# Altium schematic symbol library MongoosMini.SchLib: 17 symbols
Pins are listed as number, name and electrical type; pins without a type are passive.

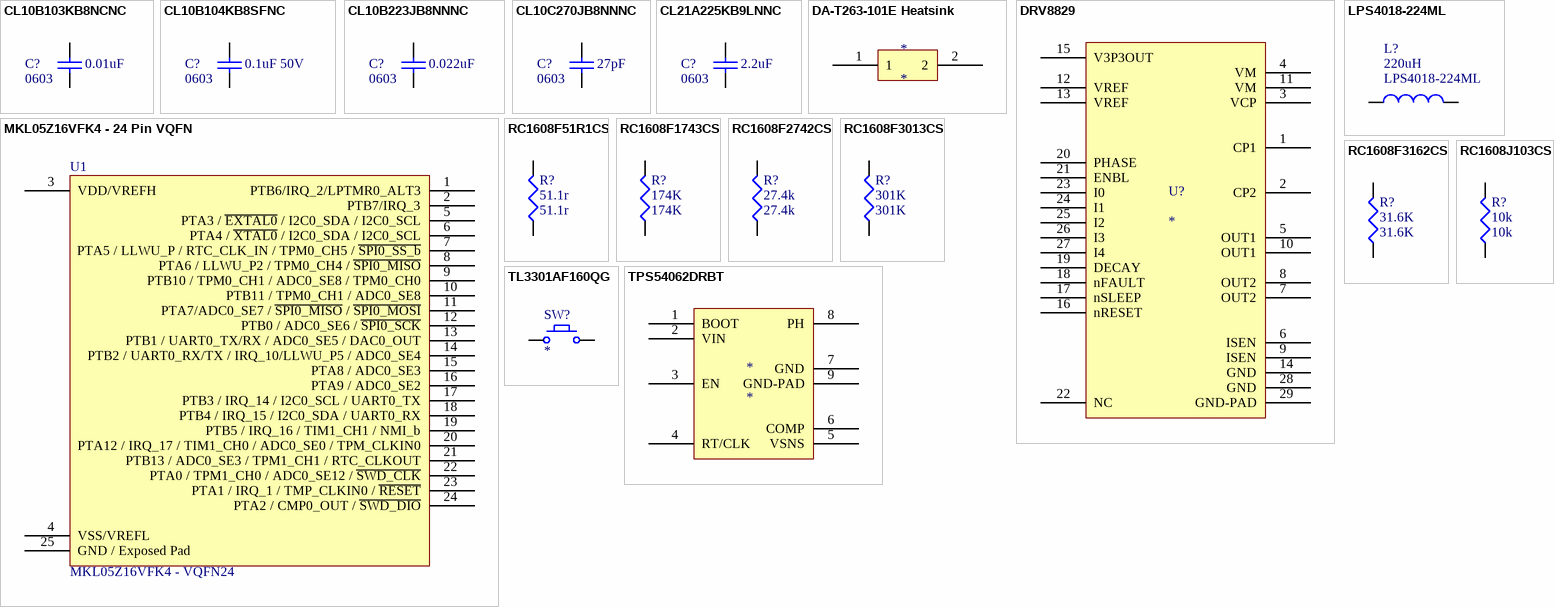
[diagram p0: symbols CL10B103KB8NCNC to TPS54062DRBT]

## CL10B103KB8NCNC
designator C?, comment 0603  value 0.01uF
CAP CER 10000PF 50V 10% X7R 0603; MFR Part #: CL10B103KB8NCNC; MFR: Samsung; Voltage: 50VDC; Published: 10 - Dec - 2014; LatestRevisionDate: April 2015; Component Type: Chip Capacitor; Part Description: CAP CER 10000PF 50V 10% X7R 0603; Mounting Type: SMT 0603; Datasheet: http://www.samsungsem.com/kr/front/downloadcms.do?path=/kr/support/product-search/mlcc/__icsFiles/afieldfile/2014/11/05&fileName=S_CL10B103KB8NCNC.pdf; Height: 0.9mm; Tolerance: 10%; Digikey #: 1276-1921-1-ND; PackageReference: 0603
simulation model CAP (Semiconductor Capacitor)
signal-integrity model Cap Semi
footprint C0603
pins: 1, 2

## CL10B104KB8SFNC
designator C?, comment 0603  value 0.1uF 50V
CAP CER 0.1UF 50V 10% X7R 0603; MFR Part #: CL10B104KB8SFNC; MFR: Samsung; Voltage: 50VDC; Published: 10 - Dec - 2014; LatestRevisionDate: April 2015; Component Type: Chip Capacitor; Part Description: CAP CER 0.1UF 50V 10% X7R 0603; Mounting Type: SMT 0603; Datasheet: http://www.samsungsem.com/kr/front/downloadcms.do?path=/kr/support/product-search/mlcc/__icsFiles/afieldfile/2014/11/05&fileName=S_CL10B104KB8SFNC.pdf; Height: 0.9mm; Tolerance: 10%; Digikey #: 1276-1936-1-ND; PackageReference: 0603
simulation model CAP (Semiconductor Capacitor)
signal-integrity model Cap Semi
footprint C0603
pins: 1, 2

## CL10B223JB8NNNC
designator C?, comment 0603  value 0.022uF
CAP CER 0.022UF 50V 5% X7R 0603; MFR Part #: CL10B223JB8NNNC; MFR: Samsung; Tolerance: 10%; Voltage: 50VDC; Published: 10 - Dec - 2014; LatestRevisionDate: April 2015; Component Type: Chip Capacitor; Part Description: CAP CER 0.022UF 50V 5% X7R 0603; Mounting Type: SMT 0603; Datasheet: http://www.samsungsem.com/kr/front/downloadcms.do?path=/kr/support/product-search/mlcc/__icsFiles/afieldfile/2014/11/05&fileName=S_CL10B223JB8NNNC.pdf; Height: 0.9mm; Digikey #: 1276-1996-1-ND; PackageReference: 0603
simulation model CAP (Semiconductor Capacitor)
signal-integrity model Cap Semi
footprint C0603
pins: 1, 2

## CL10C270JB8NNNC
designator C?, comment 0603  value 27pF
CAP CER 27PF 50V 5% NP0 0603; MFR Part #: CL10C270JB8NNNC; MFR: Samsung; Voltage: 50VDC; Published: 10 - Dec - 2014; LatestRevisionDate: April 2015; Component Type: Chip Capacitor; Part Description: CAP CER 27PF 50V 5% NP0 0603; Mounting Type: SMT 0603; Datasheet: http://www.samsungsem.com/kr/front/downloadcms.do?path=/kr/support/product-search/mlcc/__icsFiles/afieldfile/2014/11/05&fileName=S_CL10C270JB8NNNC.pdf; Height: 0.9mm; Tolerance: 5%; Digikey #: 1276-1921-1-ND; PackageReference: 0603
simulation model CAP (Semiconductor Capacitor)
signal-integrity model Cap Semi
footprint C0603
pins: 1, 2

## CL21A225KB9LNNC
designator C?, comment 0603  value 2.2uF
CAP CER 2.2UF 50V 10% X5R 0805; MFR Part #: CL21A225KB9LNNC; MFR: Samsung; Voltage: 50VDC; Published: 10 - Dec - 2014; LatestRevisionDate: April 2015; Component Type: Chip Capacitor; Part Description: CAP CER 2.2UF 50V 10% X5R 0805; Mounting Type: SMT 0805; Datasheet: http://www.samsungsem.com/kr/front/downloadcms.do?path=/kr/support/product-search/mlcc/__icsFiles/afieldfile/2014/11/05&fileName=S_CL21A225KB9LNNC.pdf; Height: 1mm; Tolerance: 10%; Digikey #: 1276-2409-1-ND; PackageReference: 0805
simulation model CAP (Semiconductor Capacitor)
signal-integrity model Cap Semi
footprint C0805
pins: 1, 2

## DA-T263-101E Heatsink
designator *
footprint DA-T263-101E
pins: 1, 2

## DRV8829
designator U?
IC MOTOR DRIVER PAR 28HTSSOP; MFR: Texas Instruments; MFR #: DRV8829PWPR; RHos: Yes; Datasheet: https://www.ti.com/lit/ds/symlink/drv8829.pdf; Digikey #: 296-28829-1-ND
footprint TSSOP28-DRV8829 (TSOP, 28-Leads, Body 9.70x4.40mm, Pitch 0.65mm, Thermal Pad 5.22x3.10mm, IPC Medium Density)
pins: 1 CP1, 2 CP2, 3 VCP, 4 VM, 5 OUT1, 6 ISEN, 7 OUT2, 8 OUT2, 9 ISEN, 10 OUT1, 11 VM, 12 VREF, 13 VREF, 14 GND, 15 V3P3OUT, 16 nRESET, 17 nSLEEP, 18 nFAULT, 19 DECAY, 20 PHASE, 21 ENBL, 22 NC, 23 I0, 24 I1, 25 I2, 26 I3, 27 I4, 28 GND, 29 GND-PAD

## LPS4018-224ML
designator L?  value 220uH
Inductor; MFR: Coilcraft; Published: 8-Jun-2000; LatestRevisionDate: April 2015; PackageReference: Coilcraft Custom; Publisher: Altium Limited; PackageDescription: Custom Wound SMD Inductor; MFR#: LPS4018-224ML; Height: 1.7mm
simulation model INDUCTOR (Inductor)
signal-integrity model Inductor
footprint LPS4018-224ML (Precision Wire Wound Inductor, 2-Leads, Body 4.40x3.90mm, IPC Medium Density)
pins: 1, 2

## MKL05Z16VFK4 - 24 Pin VQFN
designator U1, comment MKL05Z16VFK4 - VQFN24
ARM Cortex M0+
footprint 98ASA00474D (QFN, 24-Leads, Body 3.98x3.98mm, Pitch 0.50mm, Thermal Pad 2.80x2.80mm, IPC Medium Density)
pins: 1 PTB6/IRQ_2/LPTMR0_ALT3, 2 PTB7/IRQ_3, 3 VDD/VREFH, 4 VSS/VREFL, 5 PTA3 / ~{EXTAL0} / I2C0_SDA / I2C0_SCL, 6 PTA4 / ~{XTAL0} / I2C0_SDA / I2C0_SCL, 7 PTA5 / LLWU_P / RTC_CLK_IN / TPM0_CH5 / ~{SPI0_SS_b}, 8 PTA6 / LLWU_P2 / TPM0_CH4 / ~{SPI0_MISO}, 9 PTB10 / TPM0_CH1 / ADC0_SE8 / TPM0_CH0, 10 PTB11 / TPM0_CH1 / ADC0_SE8, 11 PTA7/ADC0_SE7 / ~{SPI0_MISO} / ~{SPI0_MOSI}, 12 PTB0 / ADC0_SE6 / ~{SPI0_SCK}, 13 PTB1 / UART0_TX/RX / ADC0_SE5 / DAC0_OUT, 14 PTB2 / UART0_RX/TX / IRQ_10/LLWU_P5 / ADC0_SE4, 15 PTA8 / ADC0_SE3, 16 PTA9 / ADC0_SE2, 17 PTB3 / IRQ_14 / I2C0_SCL / UART0_TX, 18 PTB4 / IRQ_15 / I2C0_SDA / UART0_RX, 19 PTB5 / IRQ_16 / TIM1_CH1 / NMI_b, 20 PTA12 / IRQ_17 / TIM1_CH0 / ADC0_SE0 / TPM_CLKIN0, 21 PTB13 / ADC0_SE3 / TPM1_CH1 / RTC_CLKOUT, 22 PTA0 / TPM1_CH0 / ADC0_SE12 / ~{SWD_CLK}, 23 PTA1 / IRQ_1 / TMP_CLKIN0 / ~{RESET}, 24 PTA2 / CMP0_OUT / ~{SWD_DIO}, 25 GND / Exposed Pad

## RC1608F51R1CS
designator R?, comment 51.1r
RES SMD 51.1 OHM 1% 1/10W 0603; MFR: Samsung; MFR #: RC1608F51R1CS; PackageReference: 0603; Digikey #: 1276-4543-1-ND; PDF: http://www.samsungsem.com/global/support/library/product-catalog/__icsFiles/afieldfile/2015/01/12/CHIP_RESISTOR_150112_1.pdf; Value: 51.1r
simulation model RESISTOR (Resistor)
signal-integrity model Res
footprint R0603
pins: 1, 2

## RC1608F1743CS
designator R?, comment 174K
RES SMD 174K OHM 1% 1/10W 0603; MFR: Samsung; MFR #: RC1608F1743CS; PackageReference: 0603; Digikey #: 1276-4857-1-ND; PDF: http://www.samsungsem.com/global/support/library/product-catalog/__icsFiles/afieldfile/2015/01/12/CHIP_RESISTOR_150112_1.pdf; Value: 174K
simulation model RESISTOR (Resistor)
signal-integrity model Res
footprint R0603
pins: 1, 2

## RC1608F2742CS
designator R?, comment 27.4k
RES SMD 27.4K OHM 1% 1/10W 0603; MFR: Samsung; MFR #: RC1608F2742CS; PackageReference: 0603; Digikey #: 1276-4782-1-ND; PDF: http://www.samsungsem.com/global/support/library/product-catalog/__icsFiles/afieldfile/2015/01/12/CHIP_RESISTOR_150112_1.pdf; Value: 27.4k
simulation model RESISTOR (Resistor)
signal-integrity model Res
footprint R0603
pins: 1, 2

## RC1608F3013CS
designator R?, comment 301K
RES SMD 301K OHM 1% 1/10W 0603; MFR: Samsung; MFR #: RC1608F3013CS; PackageReference: 0603; Digikey #: 1276-4881-1-ND; PDF: http://www.samsungsem.com/global/support/library/product-catalog/__icsFiles/afieldfile/2015/01/12/CHIP_RESISTOR_150112_1.pdf; Value: 301K
simulation model RESISTOR (Resistor)
signal-integrity model Res
footprint R0603
pins: 1, 2

## RC1608F3162CS
designator R?, comment 31.6K
RES SMD 31.6K OHM 1% 1/10W 0603; MFR: Samsung; MFR #: RC1608F3162CS; PackageReference: 0603; Digikey #: 1276-4788-1-ND; PDF: http://www.samsungsem.com/global/support/library/product-catalog/__icsFiles/afieldfile/2015/01/12/CHIP_RESISTOR_150112_1.pdf; Value: 31.6K
simulation model RESISTOR (Resistor)
signal-integrity model Res
footprint R0603
pins: 1, 2

## RC1608J103CS
designator R?, comment 10k
RES SMD 10K OHM 5% 1/10W 0603; MFR: Samsung; MFR #: RC1608J103CS; PackageReference: 0603; Digikey #: 1276-5086-1-ND; PDF: http://www.samsungsem.com/global/support/library/product-catalog/__icsFiles/afieldfile/2015/01/12/CHIP_RESISTOR_150112_1.pdf; Value: 10k
simulation model RESISTOR (Resistor)
signal-integrity model Res
footprint R0603
pins: 1, 2

## TL3301AF160QG
designator SW?
TL3301AF160QG; MFR: *; MFR#: TL3301AF160QG; Type: SMD Momentary Tactile Switch; Height: *
footprint TL3301AF160QG (TL3301AF160QG Tactile Switch)
pins: 1, 2

## TPS54062DRBT
designator *
IC REG BUCK SYNC ADJ 50MA DRBT; MFR#: TPS54062DRBT; MFR: Texas Instruments; Type: DCDC Switching Step Down Regulator IC
footprint QFN65P300X300X100_HS-17N (QFN, 16-Leads, Body 3.00x3.00mm, Pitch 0.65mm, Thermal Pad 1.65x2.40mm, IPC Medium Density)
pins: 1 BOOT, 2 VIN, 3 EN, 4 RT/CLK, 5 VSNS, 6 COMP, 7 GND, 8 PH, 9 GND-PAD